# Altium schematic symbol library SnapEDAsch.SchLib: 1 symbol
Pins are listed as number, name and electrical type; pins without a type are passive.

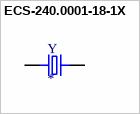
[diagram p0: symbol ECS-240.0001-18-1X]

## ECS-240.0001-18-1X
designator Y
Crystals / Oscillators / Resonators 24.00014MHz 18pF; MF: ECS International; MP: ECS-240.0001-18-1X; Package: HC49/U ECS International; Availability: Unavailable; Value: *; Price: None; SnapEDA_Link: https://www.snapeda.com/parts/ECS-240.0001-18-1X/ECS%20International/view-part/259232/?ref=snap
footprint XTAL_ECS-200-20-1X
pins: 1, 2